# Altium footprint library adafruit.PCBLIB: 630 footprints (part 39 of 40)
Each footprint in its own frame and in the unit in brackets; x right, y up, seen from the top. Pads: shape width x height; smd on the part's side, far side on the other; paste and mask are expansions set on the pad; w line width, h text height; cw(c..) or ccw(c..) is an arc to the next point about the centre after c.
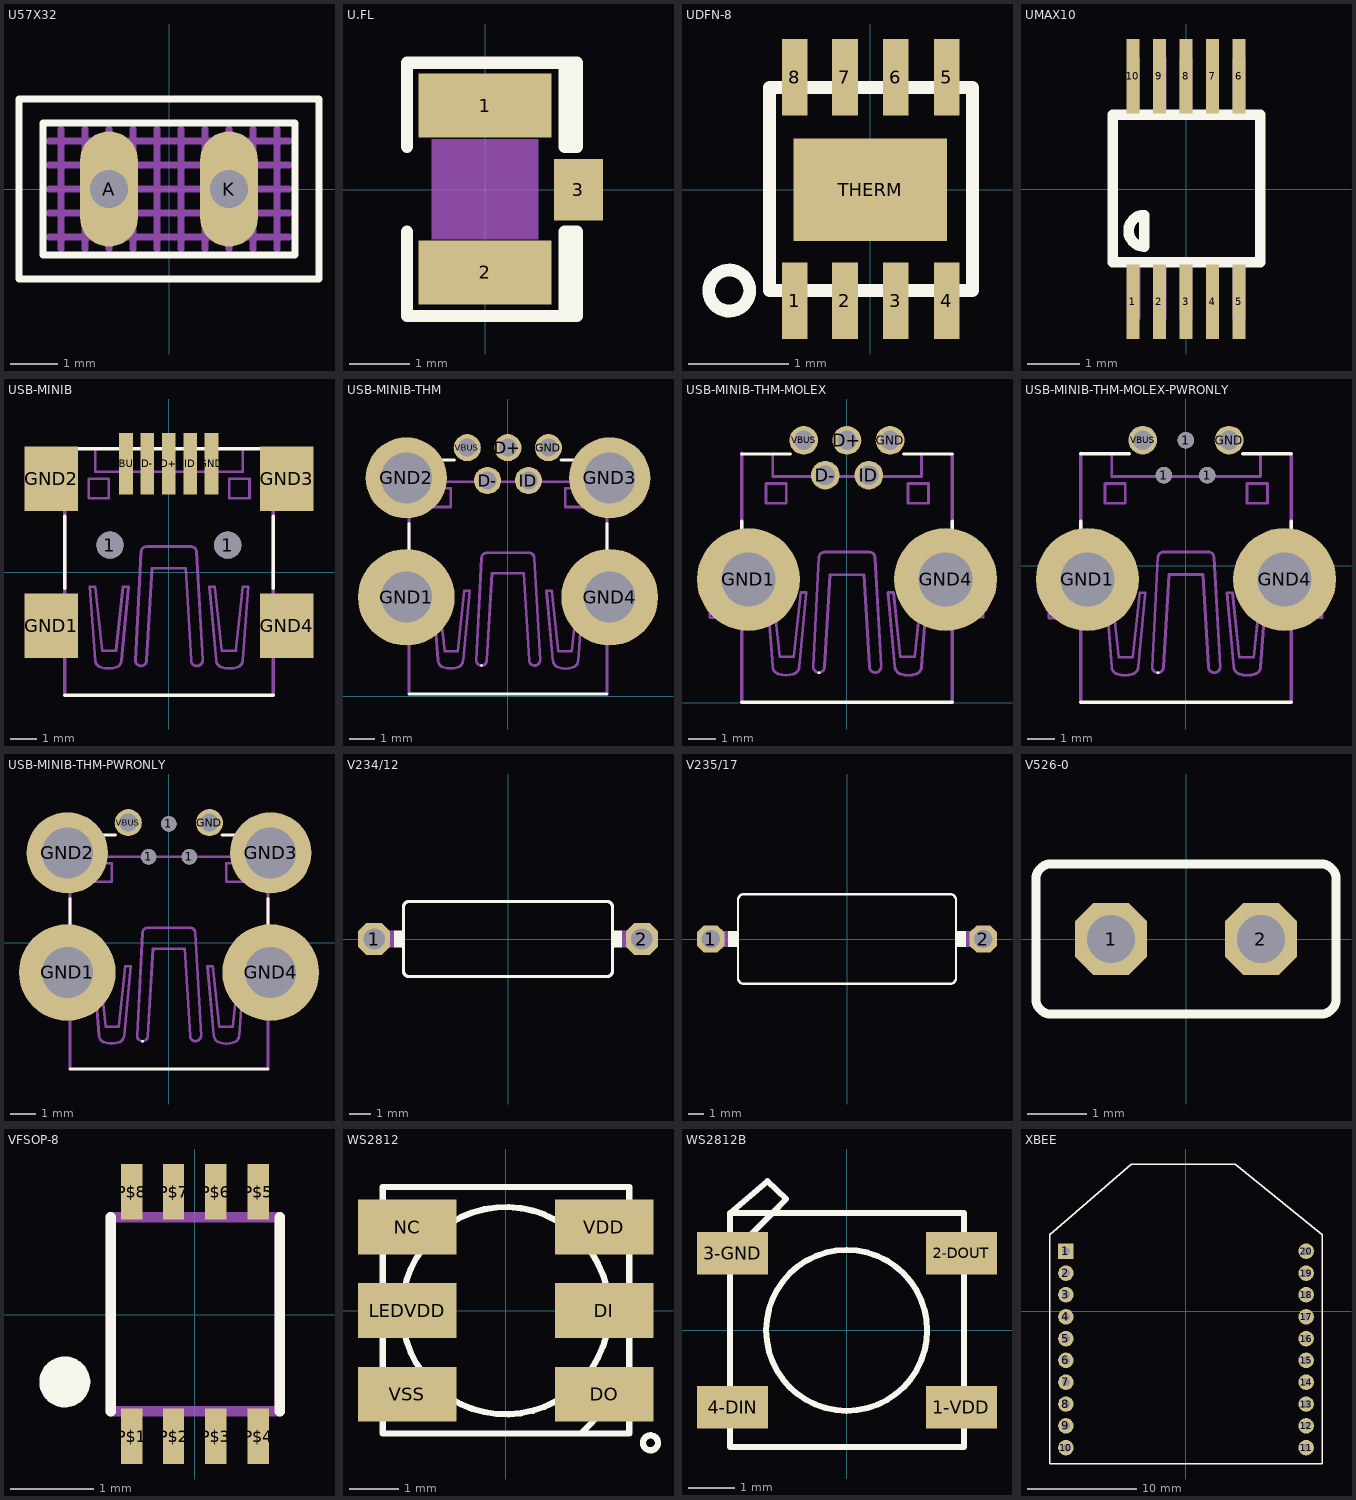
[diagram p38: the footprints below, top view; thin cyan lines are the x and y axes]

## U57X32 [mil]
pads (2):
  oval 48x96 hole 32: A(-50,0) K(50,0)
Top Overlay:
  lines w6: -125,-75 125,-75 125,75 -125,75 -125,-75 ; -105,-55 105,-55 105,55 -105,55 -105,-55
Mechanical 16:
  lines w6: -100,-40 100,-40 ; -100,-20 100,-20 ; -100,0 100,0 ; -100,20 100,20 ; -100,40 100,40 ; -90,-50 -90,50 ; -70,-50 -70,50 ; -50,-50 -50,50 ; -30,-50 -30,50 ; -10,-50 -10,50 ; 10,-50 10,50 ; 30,-50 30,50 ; 50,-50 50,50 ; 70,-50 70,50 ; 90,-50 90,50

## U.FL [mil]
pads (3):
  rect 87x42 smd: 1(0,55) 2(0,-54.13)
  rect 32x40 smd: 3(61,0)
Top Overlay:
  lines w8: -51.18,-27.56 -51.18,-82.68 52,-82.68 ; -51.18,28 -51.18,83 52,83 ; 56,-78.74 56,-27.56 ; 56,28 56,79 ; 52,-82.68 52,-27.56 60,-27.56 60,-82.68 52,-82.68 ; 52,83 52,28 60,28 60,83 52,83
Mechanical 8:
  rectangle: -35,-32.5 35,33

## UDFN-8 [mil]
pads (9):
  rect 10x30 smd: 1(-29.53,-43.31) 2(-9.84,-43.31) 3(10,-43.31) 4(30,-43.31) 5(30,44) 6(10,44) 7(-9.84,44) 8(-29.53,44)
  rect 60x40 smd: THERM(0,0)
Top Overlay:
  circle w5: c-55.12,-39.37 r8
  lines w5: -39.37,-39.37 40,-39.37 40,40 -39.37,40 -39.37,-39.37
Top Paste:
  region: 0,0 10,0 10,10 0,10
  region: 0,0 10,0 10,10 0,10
  region: 0,0 10,0 10,10 0,10
  region: 0,0 10,0 10,10 0,10
Top Solder:
  region: 0,0 10,0 10,10 0,10

## UMAX10 [mil]
pads (10):
  rect 10x56 smd: 1(-40,-85) 2(-20,-85) 3(0,-85) 4(20,-85) 5(40,-85) 6(40,85) 7(20,85) 8(0,85) 9(-20,85) 10(-40,85)
Top Overlay:
  lines w8: -55.12,-55.12 56,-55.12 56,56 -55.12,56 -55.12,-55.12 ; -31.5,-43.31 cw(c-31.5,-31.5) -31.5,-19.68 -31.5,-43.31
Mechanical 16:
  rectangle: -44.27,-98.43 -34.43,-59.06
  rectangle: -24.58,-98.43 -14.74,-59.06
  rectangle: -4.9,-98.43 5,-59.06
  rectangle: 15,-98.43 25,-59.06
  rectangle: 35,-98.43 45,-59.06
  region: 45,99 35,99 35,60 45,60
  region: 25,99 15,99 15,60 25,60
  region: 5,99 -4.94,99 -4.94,60 5,60
  region: -14.79,99 -24.63,99 -24.63,60 -14.79,60
  region: -34.47,99 -44.31,99 -44.31,60 -34.47,60

## USB-MINIB [mil]
pads (11):
  round 40 hole 40: 1(-86.61,40) 1(87,40)
  rect 20x91 smd: D+(0,160) D-(-31.5,160) GND(63,160) ID(32,160) VBUS(-62.99,160)
  rect 79x95 smd: GND1(-173.23,-78.74) GND2(-173.23,138) GND3(174,138) GND4(174,-78.74)
Top Overlay:
  lines w5: -153.54,-181.1 154,-181.1 ; -153.54,-23.62 -153.54,83 ; -153.54,182 154,182 ; -125.98,182 -82.68,182 ; 83,182 126,182 ; 154,-23.62 154,83
Mechanical 16:
  lines w4: -200,-105.12 -200,-91.34 ccw(c-200,-79.53) -200,-67.72 -200,-51.97 ; -200,113 -200,127 ccw(c-200,139) -200,151 -200,167 ; -199.21,-105.49 -153.94,-105.49 ; -199.21,-51.21 -153.94,-51.21 ; -199.21,113 -153.94,113 ; -199.21,167 -153.94,167 ; -108.27,178 -108.27,148 109,148 109,178 ; -40.88,-138.04 cw(c-40.88,-129.86) -49.05,-129.86 -40.88,30 cw(c-32.33,29.44) -32.7,38 33,38 cw(c32.54,29.54) 41,30 50,-129.86 cw(c41.41,-129.45) 41,-138.04 cw(c41.09,-129.95) 33,-129.86 25,6 -24.54,6 -32.7,-129.86 cw(c-40.87,-129.86) -40.87,-138.04 ; 153,-104.69 199,-104.69 ; 153,-50.42 199,-50.42 ; 153,114 199,114 ; 153,168 199,168 199,154 ccw(c199,142) 199,130 199,115 ; 199,-103.94 199,-88.19 cw(c199,-76.38) 199,-64.57 199,-50.79 ; -118.11,109 -88.58,109 -88.58,138 -118.11,138 -118.11,109 ; -116.5,-21.54 -108.32,-129.86 ccw(c-96.75,-128.98) -100.15,-140.08 ccw(c-88.91,-103.42) -77.67,-140.08 ccw(c-81.06,-128.98) -69.49,-129.86 -59.27,-21.54 -67.45,-21.54 -77.67,-115.56 -98.11,-115.56 -108.32,-21.54 -116.5,-21.54 ; 60,-21.54 70,-129.86 ccw(c81.48,-129.11) 78,-140.08 ccw(c89.5,-102.58) 101,-140.08 ccw(c97.52,-129.11) 109,-129.86 117,-21.54 109,-21.54 99,-115.56 78,-115.56 68,-21.54 60,-21.54 ; 89,109 89,138 119,138 119,109 89,109
  lines w5: -153.54,-181.1 -153.54,-106.3 ; -153.54,-50.79 -153.54,111 ; -153.54,168 -153.54,182 ; 154,-181.1 154,-106.3 ; 154,-48.82 154,113 ; 154,170 154,182

## USB-MINIB-THM [mil]
pads (9):
  round 42 hole 28: D+(0,386) D-(-31.5,335) GND(63,386) ID(32,335) VBUS(-62.99,386)
  round 150 hole 79: GND1(-157.48,154) GND4(158,154)
  round 126 hole 79: GND2(-157.48,339) GND3(158,339)
Top Overlay:
  lines w4: -40.88,48 -40.87,48
  lines w5: -153.54,4 154,4 ; -153.54,162 -153.54,268 ; -125.98,367 -82.68,367 ; 83,367 126,367 ; 154,186 154,268
Mechanical 16:
  lines w4: -200,128 -200,141 ccw(c-200,153) -200,165 -200,181 ; -200,299 -200,312 ccw(c-200,324) -200,336 -200,352 ; -199.21,127 -153.94,127 ; -199.21,182 -153.94,182 ; -199.21,298 -153.94,298 ; -199.21,352 -153.94,352 ; -108.27,363 -108.27,333 109,333 109,363 ; -40.88,48 cw(c-40.96,56.09) -49.05,56 -40.88,215 cw(c-32.33,214.44) -32.7,223 33,223 cw(c32.54,214.54) 41,215 50,56 cw(c41.5,56.5) 41,48 cw(c41,56) 33,56 25,191 -24.54,191 -32.7,56 cw(c-40.79,56.09) -40.87,48 ; 153,128 199,128 ; 153,182 199,182 199,168 ccw(c199,156.5) 199,145 199,129 ; 153,299 199,299 ; 153,353 199,353 199,339 ccw(c199,327) 199,315 199,300 ; -118.11,294 -88.58,294 -88.58,323 -118.11,323 -118.11,294 ; -116.5,164 -108.32,56 ccw(c-96.18,56.49) -100.15,45 ccw(c-88.91,81.66) -77.67,45 ccw(c-81.64,56.49) -69.49,56 -59.27,164 -67.45,164 -77.67,70 -98.11,70 -108.32,164 -116.5,164 ; 60,164 70,56 ccw(c82.06,56.36) 78,45 ccw(c89.5,82.5) 101,45 ccw(c96.94,56.36) 109,56 117,164 109,164 99,70 78,70 68,164 60,164 ; 89,294 89,323 119,323 119,294 89,294
  lines w5: -153.54,4 -153.54,126 ; -153.54,182 -153.54,296 ; -153.54,353 -153.54,367 ; 154,4 154,126 ; 154,184 154,298 ; 154,355 154,367

## USB-MINIB-THM-MOLEX [mil]
pads (7):
  round 42 hole 28: D+(0,383) D-(-31.5,332) GND(63,383) ID(32,332) VBUS(-62.99,383)
  round 150 hole 79: GND1(-143.7,180) GND4(144,180)
Top Overlay:
  lines w4: -40.88,44 -40.87,44
  lines w5: -153.54,1 154,1 ; -153.54,159 -153.54,265 ; -153.54,363 -82.68,363 ; 83,363 154,363 ; 154,182 154,265
Mechanical 16:
  lines w4: -200,125 -200,138 ccw(c-200,150) -200,162 -200,178 ; -199.21,124 -153.94,124 ; -199.21,178 -153.94,178 ; -108.27,360 -108.27,330 109,330 109,360 ; -40.88,44 cw(c-40.46,52.59) -49.05,53 -40.88,212 cw(c-32.33,211.44) -32.7,220 33,220 cw(c32.54,211.54) 41,212 50,53 cw(c41,53) 41,44 cw(c41.5,52.5) 33,53 25,187 -24.54,187 -32.7,53 cw(c-41.29,52.59) -40.87,44 ; 153,125 199,125 ; 153,179 199,179 199,165 ccw(c199,153) 199,141 199,126 ; -118.11,291 -88.58,291 -88.58,320 -118.11,320 -118.11,291 ; -116.5,161 -108.32,53 ccw(c-96.18,53.49) -100.15,42 ccw(c-88.91,78.66) -77.67,42 ccw(c-81.64,53.49) -69.49,53 -59.27,161 -67.45,161 -77.67,67 -98.11,67 -108.32,161 -116.5,161 ; 60,161 70,53 ccw(c82.06,53.36) 78,42 ccw(c89.5,79.5) 101,42 ccw(c96.94,53.36) 109,53 117,161 109,161 99,67 78,67 68,161 60,161 ; 89,291 89,320 119,320 119,291 89,291
  lines w5: -153.54,1 -153.54,123 ; -153.54,179 -153.54,364 ; 154,1 154,123 ; 154,181 154,362

## USB-MINIB-THM-MOLEX-PWRONLY [mil]
pads (7):
  round 24 hole 24: 1(-32,132) 1(0,183) 1(31,132)
  round 42 hole 28: GND(63,183) VBUS(-62.99,183)
  round 150 hole 79: GND1(-143.7,-20.08) GND4(144,-20.08)
Top Overlay:
  lines w4: -40.88,-156.15 -40.87,-156.15
  lines w5: -153.54,-199.21 154,-199.21 ; -153.54,-41.73 -153.54,65 ; -153.54,163 -82.68,163 ; 83,163 154,163 ; 154,-18.11 154,65
Mechanical 16:
  lines w4: -200,-75.98 -200,-62.2 ccw(c-200,-50.39) -200,-38.58 -200,-22.83 ; -199.21,-76.35 -153.94,-76.35 ; -199.21,-22.08 -153.94,-22.08 ; -108.27,160 -108.27,130 109,130 109,160 ; -40.88,-156.15 cw(c-40.88,-147.97) -49.05,-147.97 -40.88,12 cw(c-32.33,11.44) -32.7,20 33,20 cw(c32.54,11.54) 41,12 50,-147.97 cw(c41.41,-147.56) 41,-156.15 cw(c41.09,-148.06) 33,-147.97 25,-13.08 -24.54,-13.08 -32.7,-147.97 cw(c-40.87,-147.97) -40.87,-156.15 ; 153,-75.56 199,-75.56 ; 153,-21.28 199,-21.28 ; 199,-74.8 199,-59.06 cw(c199,-47.24) 199,-35.43 199,-21.65 ; -118.11,91 -88.58,91 -88.58,120 -118.11,120 -118.11,91 ; -116.5,-39.65 -108.32,-147.97 ccw(c-96.75,-147.09) -100.15,-158.19 ccw(c-88.91,-121.53) -77.67,-158.19 ccw(c-81.06,-147.09) -69.49,-147.97 -59.27,-39.65 -67.45,-39.65 -77.67,-133.67 -98.11,-133.67 -108.32,-39.65 -116.5,-39.65 ; 60,-39.65 70,-147.97 ccw(c81.48,-147.22) 78,-158.19 ccw(c89.5,-120.69) 101,-158.19 ccw(c97.52,-147.22) 109,-147.97 117,-39.65 109,-39.65 99,-133.67 78,-133.67 68,-39.65 60,-39.65 ; 89,91 89,120 119,120 119,91 89,91
  lines w5: -153.54,-199.21 -153.54,-77.17 ; -153.54,-21.65 -153.54,164 ; 154,-199.21 154,-77.17 ; 154,-19.68 154,162

## USB-MINIB-THM-PWRONLY [mil]
pads (9):
  round 24 hole 24: 1(-31.5,133) 1(0,184) 1(32,133)
  round 42 hole 28: GND(63,186) VBUS(-62.99,186)
  round 150 hole 79: GND1(-157.48,-46.46) GND4(158,-46.46)
  round 126 hole 79: GND2(-157.48,139) GND3(158,139)
Top Overlay:
  lines w4: -40.88,-153 -40.87,-153
  lines w5: -153.54,-196.06 154,-196.06 ; -153.54,-38.58 -153.54,68 ; -125.98,167 -82.68,167 ; 83,167 126,167 ; 154,-14.96 154,68
Mechanical 16:
  lines w4: -200,-72.83 -200,-59.06 ccw(c-200,-47.24) -200,-35.43 -200,-19.68 ; -200,99 -200,112 ccw(c-200,124) -200,136 -200,152 ; -199.21,-73.2 -153.94,-73.2 ; -199.21,-18.93 -153.94,-18.93 ; -199.21,98 -153.94,98 ; -199.21,152 -153.94,152 ; -108.27,163 -108.27,133 109,133 109,163 ; -40.88,-153 cw(c-40.88,-144.82) -49.05,-144.82 -40.88,15 cw(c-32.33,14.44) -32.7,23 33,23 cw(c32.54,14.54) 41,15 50,-144.82 cw(c41.41,-144.41) 41,-153 cw(c41.09,-144.91) 33,-144.82 25,-9.93 -24.54,-9.93 -32.7,-144.82 cw(c-40.87,-144.82) -40.87,-153 ; 153,-72.41 199,-72.41 ; 153,-18.13 199,-18.13 ; 153,99 199,99 ; 153,153 199,153 199,139 ccw(c199,127) 199,115 199,100 ; 199,-71.65 199,-55.91 cw(c199,-44.09) 199,-32.28 199,-18.5 ; -118.11,94 -88.58,94 -88.58,123 -118.11,123 -118.11,94 ; -116.5,-36.5 -108.32,-144.82 ccw(c-96.75,-143.94) -100.15,-155.04 ccw(c-88.91,-118.38) -77.67,-155.04 ccw(c-81.06,-143.94) -69.49,-144.82 -59.27,-36.5 -67.45,-36.5 -77.67,-130.52 -98.11,-130.52 -108.32,-36.5 -116.5,-36.5 ; 60,-36.5 70,-144.82 ccw(c81.48,-144.07) 78,-155.04 ccw(c89.5,-117.54) 101,-155.04 ccw(c97.52,-144.07) 109,-144.82 117,-36.5 109,-36.5 99,-130.52 78,-130.52 68,-36.5 60,-36.5 ; 89,94 89,123 119,123 119,94 89,94
  lines w5: -153.54,-196.06 -153.54,-74.02 ; -153.54,-18.5 -153.54,96 ; -153.54,153 -153.54,167 ; 154,-196.06 154,-74.02 ; 154,-16.54 154,98 ; 154,155 154,167

## V234/12 [mil]
pads (2):
  oct 60x60 hole 40: 1(-250,0) 2(250,0)
Top Overlay:
  rectangle: 195,-16 213,16
  rectangle: -213,-16 -195,16
  lines w6: -195,-60 ccw(c-185,-60) -185,-70 185,-70 ccw(c185,-60) 195,-60 195,60 ccw(c185,60) 185,70 -185,70 ccw(c-185,60) -195,60 -195,-60
Mechanical 16:
  lines w32: -250,0 -215,0 ; 215,0 250,0

## V235/17 [mil]
pads (2):
  oct 70.5x70.5 hole 47: 1(-350,0) 2(350,0)
Top Overlay:
  rectangle: 280,-20 305,20
  rectangle: -305,-20 -280,20
  lines w6: -280,-100 -280,100 cw(c-265,100) -265,115 265,115 cw(c265,100) 280,100 280,-100 cw(c265,-100) 265,-115 -265,-115 cw(c-265,-100) -280,-100
Mechanical 16:
  lines w40: -350,0 -310,0 ; 310,0 350,0

## V526-0 [mil]
pads (2):
  oct 48x48 hole 32: 1(-50,0) 2(50,0)
Top Overlay:
  lines w6: -100,-40 ccw(c-90,-40) -90,-50 90,-50 ccw(c90,-40) 100,-40 100,40 ccw(c90,40) 90,50 -90,50 ccw(c-90,40) -100,40 -100,-40

## VFSOP-8 [mil]
pads (8):
  rect 10x26 smd: P$1(-29.53,-57.09) P$2(-9.84,-57.09) P$3(10,-57.09) P$4(30,-57.09) P$5(30,58) P$6(10,58) P$7(-9.84,58) P$8(-29.53,58)
Top Overlay:
  circle w12: c-61.02,-31.5 r6
  lines w5: -39.37,-45.28 -39.37,46 ; 40,-45.28 40,46
Mechanical 16:
  rectangle: -13.78,-61.02 -5.91,-45.28
  rectangle: -33.46,-61.02 -25.59,-45.28
  rectangle: 6,-61.02 14,-45.28
  rectangle: 26,-61.02 34,-45.28
  rectangle: 26,46 34,62
  rectangle: 6,46 14,62
  rectangle: -13.78,46 -5.91,62
  rectangle: -33.46,46 -25.59,62
  lines w5: -39.37,-45.28 40,-45.28 40,46 -39.37,46 -39.37,-45.28

## WS2812 [mil]
pads (6):
  rect 79x44 smd: DI(79,0) DO(79,-66.93) LEDVDD(-78.74,0) NC(-78.74,67) VDD(79,67) VSS(-78.74,-66.93)
Top Overlay:
  circle w5: c116,-105.83 r6
  circle w5: c0,0 r83
  lines w5: 60,-98.43 99,-98.43 99,-59.06 ; 60,-98.43 -98.43,-98.43 -98.43,99 99,99 99,-59.06 ; 60,-98.43 99,-59.06

## WS2812B [mil]
pads (4):
  rect 60x36 smd: 1-VDD(97,-64.96) 2-DOUT(97,65) 3-GND(-96.46,65) 4-DIN(-96.46,-64.96)
Top Overlay:
  circle w5: c0,0 r68
  lines w5: -98.43,63 -98.43,-98.43 99,-98.43 99,99 -62.99,99 ; -98.43,63 -98.43,99 ; -98.43,63 -62.99,99 ; -98.43,99 -62.99,99 ; -98.43,99 -66.93,126 -51.18,111 -62.99,99

## XBEE [mil]
pads (20):
  rect 56x56 hole 28: 1(-433.07,217)
  round 56 hole 28: 2(-433.07,138) 3(-433.07,60) 4(-433.07,-19.68) 5(-433.07,-98.43) 6(-433.07,-177.17) 7(-433.07,-255.91) 8(-433.07,-334.65) 9(-433.07,-413.39) 10(-433.07,-492.13) 11(434,-492.13) 12(434,-413.39) 13(434,-334.65) 14(434,-255.91) 15(434,-177.17) 16(434,-98.43) 17(434,-19.68) 18(434,60) 19(434,138) 20(434,217)
Top Overlay:
  lines w5: -492.13,-551.18 493,-551.18 493,276 178,532 -196.85,532 -492.13,276 -492.13,-551.18